# EAGLE library part WE-LAN-10/100-BASE-T,7490100111 (library Wurth_Elektronik_Passive_rev15b)
LAN Transformer Characteristics Compliant with standards: IEEE 802.3u, IEEE 802.3ab, IEEE 802.3af and IEEE 802.3at SMD Applications Ethernet speed up to 10 Gbit/s Power over Ethernet PoE and PoE+ Compliant with most IC’s for Ethernet applications such as Intel, AMD, Globespan and Realtek Applications: Hub, Router, Switches <http://katalog.we-online.de/media/images/eisos/UtLAN_pf2.jpg> Details see: http://katalog.we-online.de/en/pbs/WE-LAN/? Updated by Dan Xu 2014-07-08 2014 (C) Wurth Elektronik
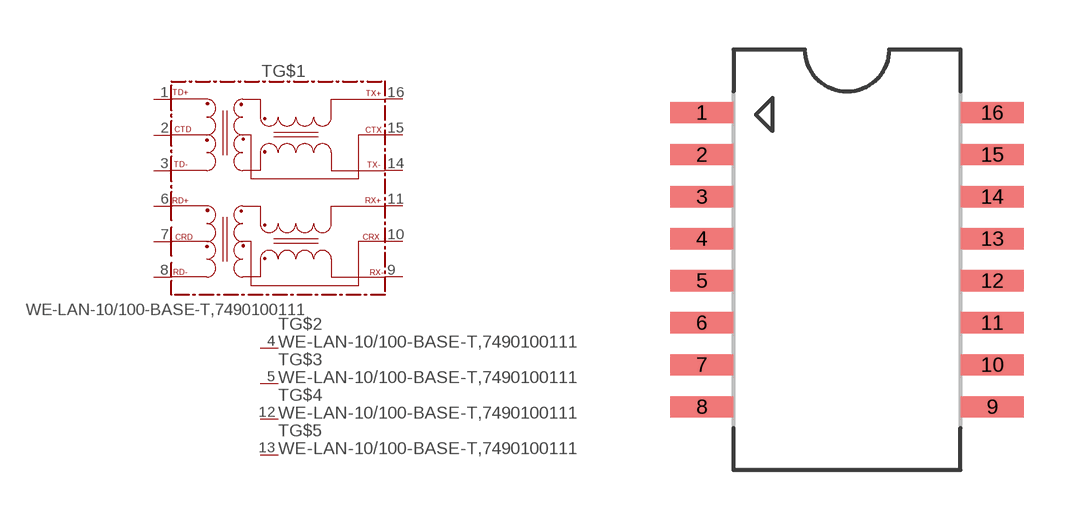
[diagram p12: symbol with the pads of 7490100111; footprint 7490100111]

Designator prefix T; gates G$1=7490100111 G$2=NC G$3=NC G$4=NC G$5=NC

## WE-LAN-10/100-BASE-T,7490100111 (COMPANY-URL: http://www.we-online.de; CREATED-BY: Christin Zierenner; CREATED-DATE: June 2012; DATASHEET-URL: http://katalog.we-online.de/kataloge/eisos/media/pdf/7490100111.pdf; MANUFACTURER: Würth Elektronik eiSos GmbH)  [7490100111]
1  G$1:TD+
2  G$1:CTD
3  G$1:TD-
4  G$2:NC  nc
5  G$3:NC  nc
6  G$1:RD+
7  G$1:CRD
8  G$1:RD-
9  G$1:RX-
10  G$1:CRX
11  G$1:RX+
12  G$4:NC  nc
13  G$5:NC  nc
14  G$1:TX-
15  G$1:CTX
16  G$1:TX+

## Footprint 7490100111 (pad centres in mm)
MAX Height=5.08mm
smd 1.91 x 0.64: 1 -4.385,4.445; 2 -4.385,3.175; 3 -4.385,1.905; 4 -4.385,0.635; 5 -4.385,-0.635; 6 -4.385,-1.905; 7 -4.385,-3.175; 8 -4.385,-4.445; 9 4.385,-4.445; 10 4.385,-3.175; 11 4.385,-1.905; 12 4.385,-0.635; 13 4.385,0.635; 14 4.385,1.905; 15 4.385,3.175; 16 4.385,4.445